# Altium footprint library smartcar_lib.PcbLib: 126 footprints (part 5 of 8)
Each footprint in its own frame and in the unit in brackets; x right, y up, seen from the top. Pads: shape width x height; smd on the part's side, far side on the other; paste and mask are expansions set on the pad; w line width, h text height; cw(c..) or ccw(c..) is an arc to the next point about the centre after c.
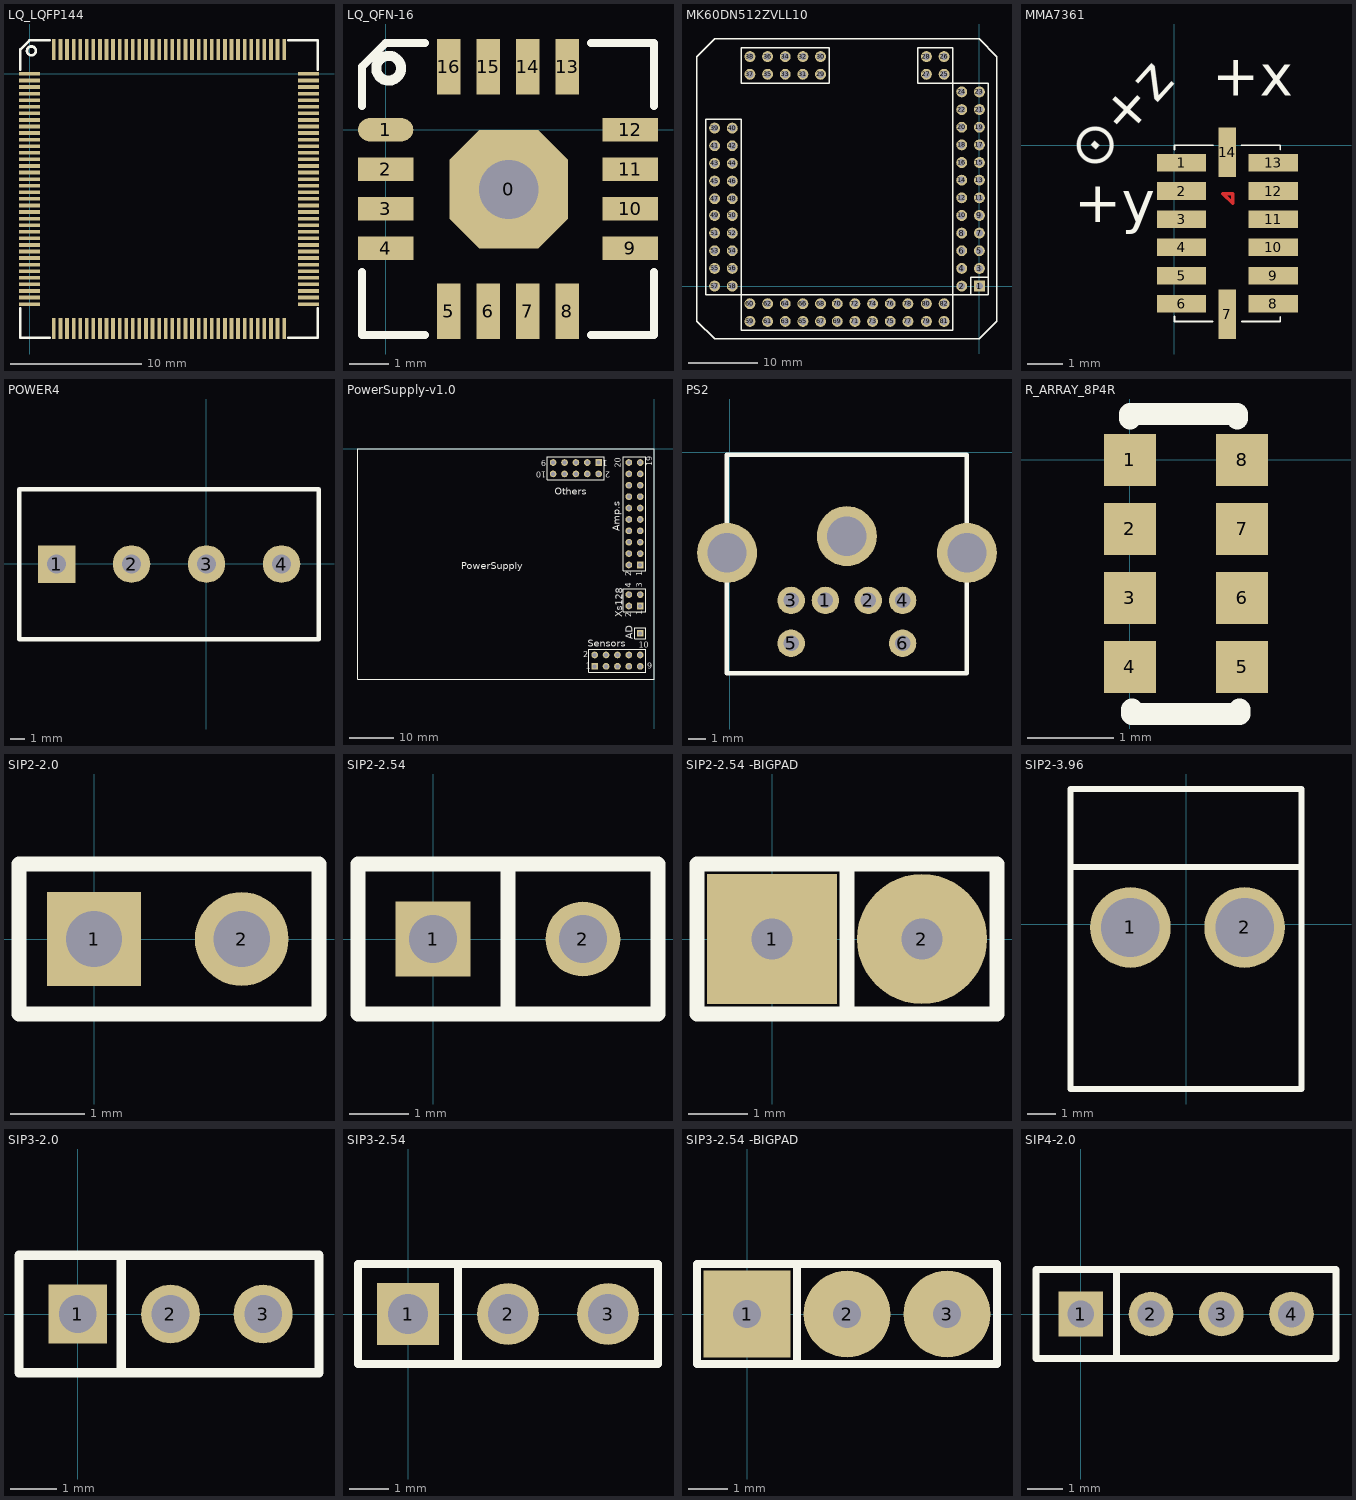
[diagram p4: the footprints below, top view; thin cyan lines are the x and y axes]

## LQ_LQFP144 [mm]
pads (144):
  rect 1.6x0.28 smd: 1(0,0) 2(0,-0.5) 3(0,-1) 4(0,-1.5) 5(0,-2) 6(0,-2.5) 7(0,-3) 8(0,-3.5) 9(0,-4) 10(0,-4.5) 11(0,-5) 12(0,-5.5) 13(0,-6) 14(0,-6.5) 15(0,-7) 16(0,-7.5) 17(0,-8) 18(0,-8.5) 19(0,-9) 20(0,-9.5) 21(0,-10) 22(0,-10.5) 23(0,-11) 24(0,-11.5) 25(0,-12) 26(0,-12.5) 27(0,-13) 28(0,-13.5) 29(0,-14) 30(0,-14.5) 31(0,-15) 32(0,-15.5) 33(0,-16) 34(0,-16.5) 35(0,-17) 36(0,-17.5) 73(21.2,-17.5) 74(21.2,-17) 75(21.2,-16.5) 76(21.2,-16) 77(21.2,-15.5) 78(21.2,-15) 79(21.2,-14.5) 80(21.2,-14) 81(21.2,-13.5) 82(21.2,-13) 83(21.2,-12.5) 84(21.2,-12) 85(21.2,-11.5) 86(21.2,-11) 87(21.2,-10.5) 88(21.2,-10) 89(21.2,-9.5) 90(21.2,-9) 91(21.2,-8.5) 92(21.2,-8) 93(21.2,-7.5) 94(21.2,-7) 95(21.2,-6.5) 96(21.2,-6) 97(21.2,-5.5) 98(21.2,-5) 99(21.2,-4.5) 100(21.2,-4) 101(21.2,-3.5) 102(21.2,-3) 103(21.2,-2.5) 104(21.2,-2) 105(21.2,-1.5) 106(21.2,-1) 107(21.2,-0.5) 108(21.2,0)
  rect 0.28x1.6 smd: 37(1.85,-19.35) 38(2.35,-19.35) 39(2.85,-19.35) 40(3.35,-19.35) 41(3.85,-19.35) 42(4.35,-19.35) 43(4.85,-19.35) 44(5.35,-19.35) 45(5.85,-19.35) 46(6.35,-19.35) 47(6.85,-19.35) 48(7.35,-19.35) 49(7.85,-19.35) 50(8.35,-19.35) 51(8.85,-19.35) 52(9.35,-19.35) 53(9.85,-19.35) 54(10.35,-19.35) 55(10.85,-19.35) 56(11.35,-19.35) 57(11.85,-19.35) 58(12.35,-19.35) 59(12.85,-19.35) 60(13.35,-19.35) 61(13.85,-19.35) 62(14.35,-19.35) 63(14.85,-19.35) 64(15.35,-19.35) 65(15.85,-19.35) 66(16.35,-19.35) 67(16.85,-19.35) 68(17.35,-19.35) 69(17.85,-19.35) 70(18.35,-19.35) 71(18.85,-19.35) 72(19.35,-19.35) 109(19.35,1.85) 110(18.85,1.85) 111(18.35,1.85) 112(17.85,1.85) 113(17.35,1.85) 114(16.85,1.85) 115(16.35,1.85) 116(15.85,1.85) 117(15.35,1.85) 118(14.85,1.85) 119(14.35,1.85) 120(13.85,1.85) 121(13.35,1.85) 122(12.85,1.85) 123(12.35,1.85) 124(11.85,1.85) 125(11.35,1.85) 126(10.85,1.85) 127(10.35,1.85) 128(9.85,1.85) 129(9.35,1.85) 130(8.85,1.85) 131(8.35,1.85) 132(7.85,1.85) 133(7.35,1.85) 134(6.85,1.85) 135(6.35,1.85) 136(5.85,1.85) 137(5.35,1.85) 138(4.85,1.85) 139(4.35,1.85) 140(3.85,1.85) 141(3.35,1.85) 142(2.85,1.85) 143(2.35,1.85) 144(1.85,1.85)
Top Overlay:
  circle w0.2: c0.143,1.75 r0.337
  lines w0.2: -0.7,-17.8 -0.7,-20.05 1.55,-20.05 ; -0.7,0.3 -0.7,1.85 0,2.55 1.55,2.55 ; 19.65,-20.05 21.9,-20.05 21.9,-17.8 ; 19.65,2.55 21.9,2.55 21.9,0.3

## LQ_QFN-16 [mm]
pads (17):
  oct 3x3 hole 1.5: 0(3.12,-1.51)
  oval 1.4x0.6 smd: 1(0,0)
  rect 1.4x0.6 smd: 2(0,-1) 3(0,-2) 4(0,-3) 9(6.2,-3) 10(6.2,-2) 11(6.2,-1) 12(6.2,0)
  rect 0.6x1.4 smd: 5(1.6,-4.6) 6(2.6,-4.6) 7(3.6,-4.6) 8(4.6,-4.6) 13(4.6,1.6) 14(3.6,1.6) 15(2.6,1.6) 16(1.6,1.6)
Top Overlay:
  circle w0.254: c0.076,1.56 r0.314
  lines w0.2: -0.6,-3.6 -0.6,-5.2 1,-5.2 ; -0.6,0.6 -0.6,1.6 0,2.2 1,2.2 ; 5.2,-5.2 6.8,-5.2 6.8,-3.6 ; 5.2,2.2 6.8,2.2 6.8,0.6

## MK60DN512ZVLL10 [mil]
pads (82):
  rect 62x62 hole 40: 1(0,0)
  round 62 hole 40: 2(-100,0) 3(0,100) 4(-100,100) 5(0,200) 6(-100,200) 7(0,300) 8(-100,300) 9(0,400) 10(-100,400) 11(0,500) 12(-100,500) 13(0,600) 14(-100,600) 15(0,700) 16(-100,700) 17(0,800) 18(-100,800) 19(0,900) 20(-100,900) 21(0,1000) 22(-100,1000) 23(0,1100) 24(-100,1100) 25(-200,1200) 26(-200,1300) 27(-300,1200) 28(-300,1300) 29(-900,1200) 30(-900,1300) 31(-1000,1200) 32(-1000,1300) 33(-1100,1200) 34(-1100,1300) 35(-1200,1200) 36(-1200,1300) 37(-1300,1200) 38(-1300,1300) 39(-1500,895) 40(-1400,895) 41(-1500,795) 42(-1400,795) 43(-1500,695) 44(-1400,695) 45(-1500,595) 46(-1400,595) 47(-1500,495) 48(-1400,495) 49(-1500,400) 50(-1400,400) 51(-1500,300) 52(-1400,300) 53(-1500,200) 54(-1400,200) 55(-1500,100) 56(-1400,100) 57(-1500,0) 58(-1400,0) 59(-1300,-200) 60(-1300,-100) 61(-1200,-200) 62(-1200,-100) 63(-1100,-200) 64(-1100,-100) 65(-1000,-200) 66(-1000,-100) 67(-900,-200) 68(-900,-100) 69(-805,-200) 70(-805,-100) 71(-705,-200) 72(-705,-100) 73(-605,-200) 74(-605,-100) 75(-505,-200) 76(-505,-100) 77(-405,-200) 78(-405,-100) 79(-300,-200) 80(-300,-100) 81(-200,-200) 82(-200,-100)
Top Overlay:
  lines w8: -50,-50 -50,50 50,50 ; -1350,-50 -1350,945 -1550,945 -1550,-50 -1350,-50 ; -1350,-50 -1350,-250 -150,-250 -150,-50 ; -1350,-50 -150,-50 ; -150,-50 50,-50 50,1150 -150,1150 ; -150,-50 -150,1150 ; -150,1150 -350,1150 -350,1350 -150,1350 -150,1150 ; -1600,-200 -1600,1300 -1500,1400 0,1400 100,1300 100,-200 0,-300 -1500,-300 -1600,-200 ; -1350,1150 -1350,1350 -850,1350 -850,1150 -1350,1150

## MMA7361 [mm] "MMA7361"
pads (14):
  rect 1.4x0.5 smd: 1(0.2,-0.5) 2(0.2,-1.3) 3(0.2,-2.1) 4(0.2,-2.9) 5(0.2,-3.7) 6(0.2,-4.5) 8(2.8,-4.5) 9(2.8,-3.7) 10(2.8,-2.9) 11(2.8,-2.1) 12(2.8,-1.3) 13(2.8,-0.5)
  rect 0.5x1.4 smd: 7(1.5,-4.8) 14(1.5,-0.2)
Top Layer:
  lines w0.1: 1.372,-1.372 1.651,-1.651 1.651,-1.372 1.372,-1.372
Top Overlay:
  lines w0.05: 0,-4.851 0,-5 1.088,-5 ; 0,-0.127 0,0 1.092,0 ; 1.905,0 3,0 3,-0.127 ; 1.909,-5 3,-5 3,-4.877
  text "+x" at 1.067,1.016 h2
  text "+y" at -2.845,-2.565 h2
  text "⊙+z" at -2.032,-1.092 h2

## POWER4 [mil]
pads (4):
  rect 100x100 hole 50: 1(-399.54,-0.22)
  round 100 hole 50: 2(-199.53,-0.22) 3(0.47,-0.22) 4(200.47,-0.22)
Top Overlay:
  lines w12: -499.54,-200.22 -499.54,199.78 300.46,199.78 300.46,-200.22 -499.54,-200.22

## PowerSupply-v1.0 [mm]
pads (45):
  rect 1.5x1.5 hole 0.9: 0(-3.078,-41.175) A1(-3.078,-25.938) O1(-12.349,-3.078) S1(-13.238,-48.544) X1(-3.078,-35.082)
  round 1.5 hole 0.9: A2(-5.618,-25.938) A3(-3.078,-23.398) A4(-5.618,-23.398) A5(-3.078,-20.858) A6(-5.618,-20.858) A7(-3.078,-18.318) A8(-5.618,-18.318) A9(-3.078,-15.778) A10(-5.618,-15.778) A11(-3.078,-13.238) A12(-5.618,-13.238) A13(-3.078,-10.698) A14(-5.618,-10.698) A15(-3.078,-8.158) A16(-5.618,-8.158) A17(-3.078,-5.618) A18(-5.618,-5.618) A19(-3.078,-3.078) A20(-5.618,-3.078) O2(-12.349,-5.618) O3(-14.889,-3.078) O4(-14.889,-5.618) O5(-17.429,-3.078) O6(-17.429,-5.618) O7(-19.969,-3.078) O8(-19.969,-5.618) O9(-22.509,-3.078) O10(-22.509,-5.618) S2(-13.238,-46.004) S3(-10.698,-48.544) S4(-10.698,-46.004) S5(-8.158,-48.544) S6(-8.158,-46.004) S7(-5.618,-48.544) S8(-5.618,-46.004) S9(-3.078,-48.544) S10(-3.078,-46.004) X2(-5.618,-35.082) X3(-3.078,-32.542) X4(-5.618,-32.542)
Top Overlay:
  lines w0.2: -23.779,-6.888 -23.779,-1.808 -11.079,-1.808 -11.079,-6.888 -23.779,-6.888 ; -14.508,-49.814 -1.808,-49.814 -1.808,-44.734 -14.508,-44.734 -14.508,-49.814 ; -6.888,-36.352 -6.888,-31.272 -1.808,-31.272 -1.808,-36.352 -6.888,-36.352 ; -6.888,-27.208 -1.808,-27.208 -1.808,-25.303 -1.808,-1.808 -6.888,-1.808 -6.888,-25.303 -6.888,-27.208 ; -4.348,-42.445 -1.808,-42.445 -1.808,-39.905 -4.348,-39.905 -4.348,-42.445
  lines w0.254: -66.04,-51.435 -66.04,0 0,0 0,-51.435 -66.04,-51.435
  text "PowerSupply" at -43.053,-26.924 h1.52
  text "20" at -7.366,-4.191 h1.27
  text "19" at -0.381,-3.937 h1.27
  text "1" at -2.57,-28.478 h1.27
  text "2" at -5.11,-28.478 h1.27
  text "2" at -9.809,-5.11 h1.27
  text "1" at -10.317,-2.57 h1.27
  text "9" at -24.033,-2.57 h1.27
  text "10" at -24.033,-5.11 h1.27
  text "1" at -2.57,-37.114 h1.27
  text "2" at -5.11,-37.622 h1.27
  text "4" at -5.11,-31.018 h1.27
  text "3" at -2.57,-31.018 h1.27
  text "10" at -3.429,-44.45 h1.27
  text "9" at -1.554,-49.052 h1.27
  text "1" at -15.27,-49.052 h1.27
  text "2" at -15.778,-46.512 h1.27
  text "Others" at -22.098,-10.287 h1.52
  text "Amp.s" at -7.62,-18.415 h1.52
  text "Xs128" at -7.112,-37.592 h1.52
  text "AD" at -4.699,-42.545 h1.52
  text "Sensors" at -14.732,-44.196 h1.52

## PS2 [mil]
pads (9):
  round 63 hole 35.5: 1(220,-340) 2(318.42,-340) 3(141.26,-340) 4(397.16,-340) 5(141.26,-438.42) 6(397.16,-438.42)
  round 137.79 hole 90.55: ""(-6,-231) ""(269.21,-192.36) ""(545,-231)
Top Overlay:
  lines w10: -6.38,-507.32 544.8,-507.32 544.8,-5.35 -6.38,-5.35 -6.38,-507.32

## R_ARRAY_8P4R [mm]
pads (8):
  rect 0.6x0.6 smd: 1(0,0) 2(0,-0.8) 3(0,-1.6) 4(0,-2.4) 5(1.3,-2.4) 6(1.3,-1.6) 7(1.3,-0.8) 8(1.3,0)
Top Overlay:
  lines w0.254: 0,0.483 0,0.533 1.245,0.533 ; 0.025,-2.946 1.27,-2.946 1.27,-2.896 ; 0.025,-2.921 0.025,-2.896 ; 1.245,0.483 1.245,0.508

## SIP2-2.0 [mil]
pads (2):
  rect 50x50 hole 30: 1(0,0)
  round 50 hole 30: 2(78.74,0)
Top Overlay:
  lines w8: -40,-40 -40,40 120,40 120,-40 -40,-40

## SIP2-2.54 [mil]
pads (2):
  rect 50x50 hole 32: 1(0,0)
  round 50 hole 32: 2(100,0)
Top Overlay:
  lines w10: 50,-50 50,50 ; -50,-50 150,-50 150,50 -50,50 -50,-50

## SIP2-2.54 -BIGPAD [mm]
pads (2):
  rect 2.2x2.2 hole 0.7: 1(0,0)
  round 2.2 hole 0.7: 2(2.54,0)
Top Overlay:
  lines w0.254: 1.27,-1.27 1.27,1.27 ; -1.27,-1.27 3.81,-1.27 3.81,1.27 -1.27,1.27 -1.27,-1.27

## SIP2-3.96 [mil]
pads (2):
  round 110 hole 80: 1(-75.91,-4.25) 2(80,-4.25)
Top Overlay:
  lines w8: -157.48,78.42 157.48,78.42 ; -157.48,-224.72 -157.48,184.72 157.48,184.72 157.48,-224.72 -157.48,-224.72

## SIP3-2.0 [mil]
pads (3):
  rect 50x50 hole 32: 1(0,0)
  round 50 hole 32: 2(78.74,0) 3(157.48,0)
Top Overlay:
  lines w8: 37,50 37,-49 38,-50 ; -50,-50 205,-50 205,50 -50,50 -50,-50

## SIP3-2.54 [mil]
pads (3):
  rect 62x62 hole 40: 1(0,0)
  round 62 hole 40: 2(100,0) 3(200,0)
Top Overlay:
  lines w8: 50,-50 50,50 ; -50,-50 -50,50 250,50 250,-50 -50,-50

## SIP3-2.54 -BIGPAD [mm]
pads (3):
  rect 2.2x2.2 hole 0.7: 1(0,0)
  round 2.2 hole 0.7: 2(2.54,0) 3(5.08,0)
Top Overlay:
  lines w0.203: 1.27,-1.27 1.27,1.27 ; -1.27,-1.27 6.35,-1.27 6.35,1.27 -1.27,1.27 -1.27,-1.27

## SIP4-2.0 [mil]
pads (4):
  rect 50x50 hole 30: 1(0,0)
  round 50 hole 30: 2(78.74,0) 3(157.48,0) 4(236.22,0)
Top Overlay:
  lines w8: 40,-50 40,50 ; -50,-50 -50,50 286,50 286,-50 -50,-50